# EAGLE library part SAMD21-M0MINI (library SAMD21-M0MINI)
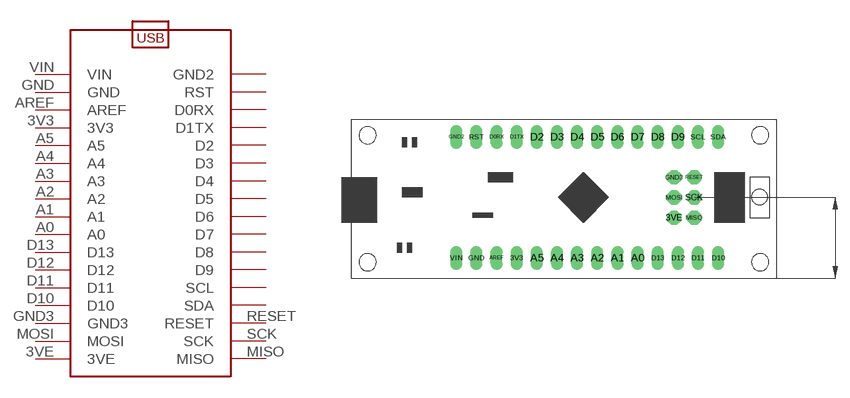
[diagram p0: symbol with the pads of SAMD21-M0MINI; footprint SAMD21-M0MINI]

Designator prefix -

## SAMD21-M0MINI  [SAMD21-M0MINI]
3V3  3V3
3VE  3VE
A0  A0
A1  A1
A2  A2
A3  A3
A4  A4
A5  A5
AREF  AREF
D0RX  D0RX
D1TX  D1TX
D2  D2
D3  D3
D4  D4
D5  D5
D6  D6
D7  D7
D8  D8
D9  D9
D10  D10
D11  D11
D12  D12
D13  D13
GND  GND
GND2  GND2
GND3  GND3
MISO  MISO
MOSI  MOSI
RESET  RESET
RST  RST
SCK  SCK
SCL  SCL
SDA  SDA
VIN  VIN

## Footprint SAMD21-M0MINI (pad centres in mm)
drill 1 long: 3V3 20.796,2.54; A0 36.036,2.54; A1 33.496,2.54; A2 30.956,2.54; A3 28.416,2.54; A4 25.876,2.54; A5 23.336,2.54; AREF 18.256,2.54; D0RX 18.256,17.78; D1TX 20.796,17.78; D2 23.336,17.78; D3 25.876,17.78; D4 28.416,17.78; D5 30.956,17.78; D6 33.496,17.78; D7 36.036,17.78; D8 38.576,17.78; D9 41.116,17.78; D10 46.196,2.54; D11 43.656,2.54; D12 41.116,2.54; D13 38.576,2.54; GND 15.716,2.54; GND2 13.176,17.78; RST 15.716,17.78; SCL 43.656,17.78; SDA 46.196,17.78; VIN 13.176,2.54
drill 1 pad 1.778 octagon: 3VE 40.64,7.62; GND3 40.64,12.7; MISO 43.18,7.62; MOSI 40.64,10.16; RESET 43.18,12.7; SCK 43.18,10.16